# Altium footprint library ECOPACK-48.PcbLib: 1 footprints
Each footprint in its own frame and in the unit in brackets; x right, y up, seen from the top. Pads: shape width x height; smd on the part's side, far side on the other; paste and mask are expansions set on the pad; w line width, h text height; cw(c..) or ccw(c..) is an arc to the next point about the centre after c.
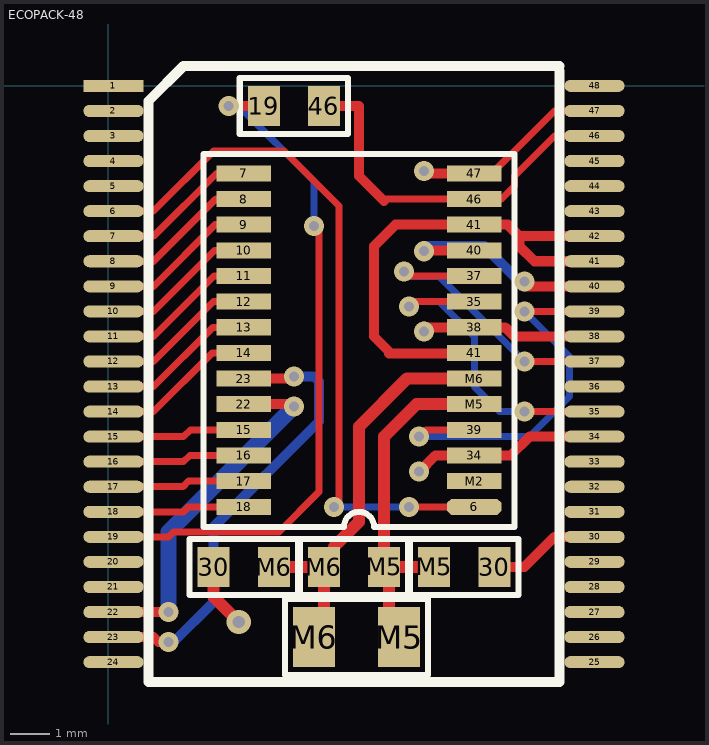
[diagram p0: the footprint, top view; thin cyan lines are the x and y axes]

## ECOPACK-48 [mil]
pads (86):
  rect 60x12 smd: 1(5,0)
  oval 60x12 smd: 2(5,-25) 3(5,-50) 4(5,-75) 5(5,-100) 6(5,-125) 7(5,-150) 8(5,-175) 9(5,-200) 10(5,-225) 11(5,-250) 12(5,-275) 13(5,-300) 14(5,-325) 15(5,-350) 16(5,-375) 17(5,-400) 18(5,-425) 19(5,-450) 20(5,-475) 21(5,-500) 22(5,-525) 23(5,-550) 24(5,-575) 25(485,-575) 26(485,-550) 27(485,-525) 28(485,-500) 29(485,-475) 30(485,-450) 31(485,-425) 32(485,-400) 33(485,-375) 34(485,-350) 35(485,-325) 36(485,-300) 37(485,-275) 38(485,-250) 39(485,-225) 40(485,-200) 41(485,-175) 42(485,-150) 43(485,-125) 44(485,-100) 45(485,-75) 46(485,-50) 47(485,-25) 48(485,0)
  oct 54x16 smd mask+2: 6(365,-420)
  rect 54x16 smd mask+2: 7(135,-87.32) 8(135,-112.91) 9(135,-138.5) 10(135,-164.09) 11(135,-189.69) 12(135,-215.28) 13(135,-240.87) 14(135,-266.46) 15(135,-343.23) 16(135,-368.82) 17(135,-394.41) 18(135,-420) 22(135,-317.64) 23(135,-292.05) 34(365,-368.82) 35(365,-215.28) 37(365,-189.68) 38(365,-240.87) 39(365,-343.23) 40(365,-164.09) 41(365,-266.46) 41(365,-138.5) 46(365,-112.91) 47(365,-87.32) M2(365,-394.41) M5(365,-317.64) M6(365,-292.05)
  rect 32x40 smd: 19(155,-20) 30(105,-480) 30(385,-480) 46(215,-20) M5(275,-480) M5(325,-480) M6(165,-480) M6(215,-480)
  rect 42x60 smd: M5(290,-550) M6(205,-550)
via 130,-535 diameter 24 hole 12
via 60,-555 diameter 20 hole 10
via 205,-140 diameter 20 hole 10
via 225,-420 diameter 20 hole 10
via 415,-195 diameter 20 hole 10
via 300,-220 diameter 20 hole 10
via 315,-245 diameter 20 hole 10
via 60,-525 diameter 20 hole 10
via 415,-225 diameter 20 hole 10
via 415,-325 diameter 20 hole 10
via 415,-275 diameter 20 hole 10
via 310,-350 diameter 20 hole 10
via 310,-385 diameter 20 hole 10
via 315,-85 diameter 20 hole 10
via 300,-420 diameter 20 hole 10
via 185,-320 diameter 20 hole 10
via 185,-290 diameter 20 hole 10
via 120,-20 diameter 20 hole 10
via 295,-185 diameter 20 hole 10
via 315,-165 diameter 20 hole 10
Top Layer:
  lines w7: 25,-450 60,-450 65,-445 170,-445 210,-405 210,-145 205,-140 ; 25,-425 75,-425 80,-420 135,-420 ; 25,-375 75,-375 81.18,-368.82 135,-368.82 ; 25,-325 45,-325 103.54,-266.46 135,-266.46 ; 25,-300 45,-300 104.13,-240.87 135,-240.87 ; 25,-275 45,-275 104.72,-215.28 135,-215.28 ; 25,-250 45,-250 105.31,-189.69 135,-189.69 ; 25,-225 45,-225 105.91,-164.09 135,-164.09 ; 25,-200 45,-200 106.5,-138.5 135,-138.5 ; 25,-175 45,-175 107.09,-112.91 135,-112.91 ; 25,-150 45,-150 107.68,-87.32 135,-87.32 ; 25,-125 45,-125 105,-65 175,-65 230,-120 230,-415 225,-420 ; 30,-400 74.41,-400 80,-394.41 135,-394.41 ; 30,-350 75,-350 81.77,-343.23 135,-343.23 ; 272.09,-112.91 365,-112.91 392.09,-112.91 405,-100 405,-90 445,-50 455,-50 470,-50 ; 300,-420 365,-420 ; 300,-215 300.28,-215.28 365,-215.28 ; 300,-190 300.32,-189.68 365,-189.68 ; 310,-350 316.77,-343.23 365,-343.23 ; 365,-85 385,-85 415,-55 445,-25 485,-25 ; 415,-325 470,-325 ; 415,-275 470,-275 ; 415,-225 470,-225
  lines w10: 25,-550 45,-550 50,-555 60,-555 ; 25,-525 60,-525 ; 120,-20 155,-20 ; 135,-317.64 182.64,-317.64 185,-320 ; 135,-292.05 182.95,-292.05 185,-290 ; 215,-20 250,-20 250,-90 275,-115 ; 280,-267 363.54,-267 ; 280,-265 265,-250 265,-160 286.5,-138.5 290,-138.5 365,-138.5 398.5,-138.5 410,-150 ; 310,-385 326.18,-368.82 365,-368.82 401.18,-368.82 420,-350 470,-350 ; 315,-240 315.87,-240.87 365,-240.87 395.87,-240.87 405,-250 470,-250 ; 315,-165 315.91,-164.09 365,-164.09 ; 315,-85 317.32,-87.32 365,-87.32 ; 363.54,-265 365,-266.46 ; 385,-480 415,-480 445,-450 485,-450 ; 415,-200 470,-200 ; 470,-175 425,-175 410,-160 410,-150 ; 470,-150 410,-150
  lines w12: 105,-480 105,-510 130,-535 ; 165,-480 215,-480 215,-550 ; 225,-480 225,-460 250,-435 250,-340 297.95,-292.05 365,-292.05 ; 280,-550 280,-485 ; 325,-480 275,-480 275,-350 307.36,-317.64 365,-317.64
Bottom Layer:
  lines w7: 120,-20 130,-20 205,-95 205,-140 ; 225,-420 300,-420 ; 300,-215 330,-215 365,-250 365,-300 390,-325 415,-325 ; 300,-190 330,-190 415,-275 ; 310,-350 420,-350 460,-310 460,-270 415,-225
  lines w10: 65,-555 105,-515 105,-440 210,-335 210,-295 205,-290 185,-290 ; 315,-160 375,-160 410,-195 415,-195
  lines w16: 60,-525 60,-445 185,-320
Top Overlay:
  lines w6: 81,-508 81,-452 189,-452 189,-508 81,-508 ; 95,-440 235,-440 cw(c250,-440) 265,-440 405,-440 405,-67.82 95,-67.82 95,-440 ; 131,-48 239,-48 239,8 131,8 131,-48 ; 176,-588 176,-512 319,-512 319,-588 176,-588 ; 191,-508 191,-452 299,-452 299,-508 191,-508 ; 301,-508 301,-452 409,-452 409,-508 301,-508
  lines w10: 450,15 450,-595 40,-595 40,-15 75,20 450,20
3D body: height 95, standoff 0, extent 65,-595 425,15